# Altium integrated library Big_Library_Transceivers.IntLib: 2 symbols
Pins are listed as number, name and electrical type; pins without a type are passive.

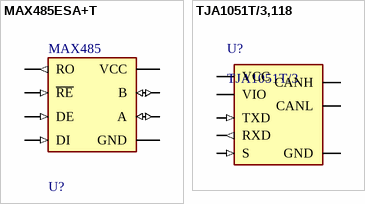
[diagram p0: symbols MAX485ESA+T to TJA1051T/3,118]

## MAX485ESA+T
designator U?, comment MAX485
IC TRANSCEIVER HALF 1/1 8SOIC; Min Supply Voltage: 4.75V; Nominal Supply Current: 0.5mA; Number Of Transmitters: 1; Data Rate: 2.5Mbits/s; Interface: RS-485,RS-422; Standoff Height: 0.1mm; Max Supply Voltage: 5.25V; Simplex Duplex: Half-Duplex; Temperature Range Low: -40°C; Number Of Receivers: 1; Temperature Range High: +85°C; ComponentLink1Description: Link; ComponentLink1URL: https://www.ozdisan.com/entegre-devreler-icler/interface-entegreleri/driver-receiver-ve-transceiver-entegreleri/MAX485ED-HTC/607435
footprint S8-2-IPC_A
footprint S8-2-IPC_B
footprint S8-2-IPC_C
footprint S8-2-MFG
pins: 1 RO (out), 2 ~{RE} (in), 3 DE (in), 4 DI (in), 5 GND (power), 6 A (io), 7 B (io), 8 VCC (power)

## TJA1051T/3,118
designator U?, comment TJA1051T/3
High-Speed CAN Transceiver, 3 to 5 V, 8-Pin SOIC (SOT96-1), RoHS, Tape and Reel; Manufacturer: NXP; Power Down Mode: Normal/Silent; Rad Hardened: No; Number of Transceivers: 1; Supply Current: 70mA; Operating Supply Voltage (Max): 5.5V; Operating Supply Voltage (Typ): 5V; Operating Supply Voltage (Min): 4.5V; Standard Supported: ISO11898-2; Data Rate: 1Mbps; DELETED: Compliant; Operating Temperature (Min): -40C; Datasheet Version: Rev. 7, 01/2015; Pin Count: 8; Operating Temperature (Max): 125C; Package Description: 8-Pin Small Outline Integrated Circuit, Body 4.9 x 3.9 mm, Pitch 1.27 mm; Category: Transceiver; Packaging: TapeandReel; Mounting: SurfaceMount; Package Reference: SOT96-1; Operating Temperature Classification: Automotive; Mounting Technology: SurfaceMount; Package Type: SO; Manufacturer URL: http://www.nxp.com/; Datasheet URL: http://www.nxp.com/documents/data_sheet/TJA1051.pdf; ComponentLink1Description: Link; ComponentLink1URL: https://ozdisan.com/entegre-devreler-icler/interface-entegreleri/driver-receiver-ve-transceiver-entegreleri/TJA1051T3118/473075
footprint NXP-SOIC-8_L (SOIC, 8-Leads, Body 5x4mm, Pitch 1.27mm, IPC High Density)
footprint NXP-SOIC-8_M (SOIC, 8-Leads, Body 5x4mm, Pitch 1.27mm, IPC Low Density)
footprint NXP-SOIC-8_N (SOIC, 8-Leads, Body 5x4mm, Pitch 1.27mm, IPC Medium Density)
pins: 1 TXD (in) "transmit data input", 2 GND (power) "ground", 3 VCC (power) "supply voltage", 4 RXD (out) "receive data output; reads out data from the bus lines", 5 VIO (power) "supply voltage for I/O level adapter", 6 CANL "LOW-level CAN bus line", 7 CANH "HIGH-level CAN bus line", 8 S (in) "Silent mode control input"